# Altium schematic symbol library Amber.SCHLIB: 45 symbols
Pins are listed as number, name and electrical type; pins without a type are passive.

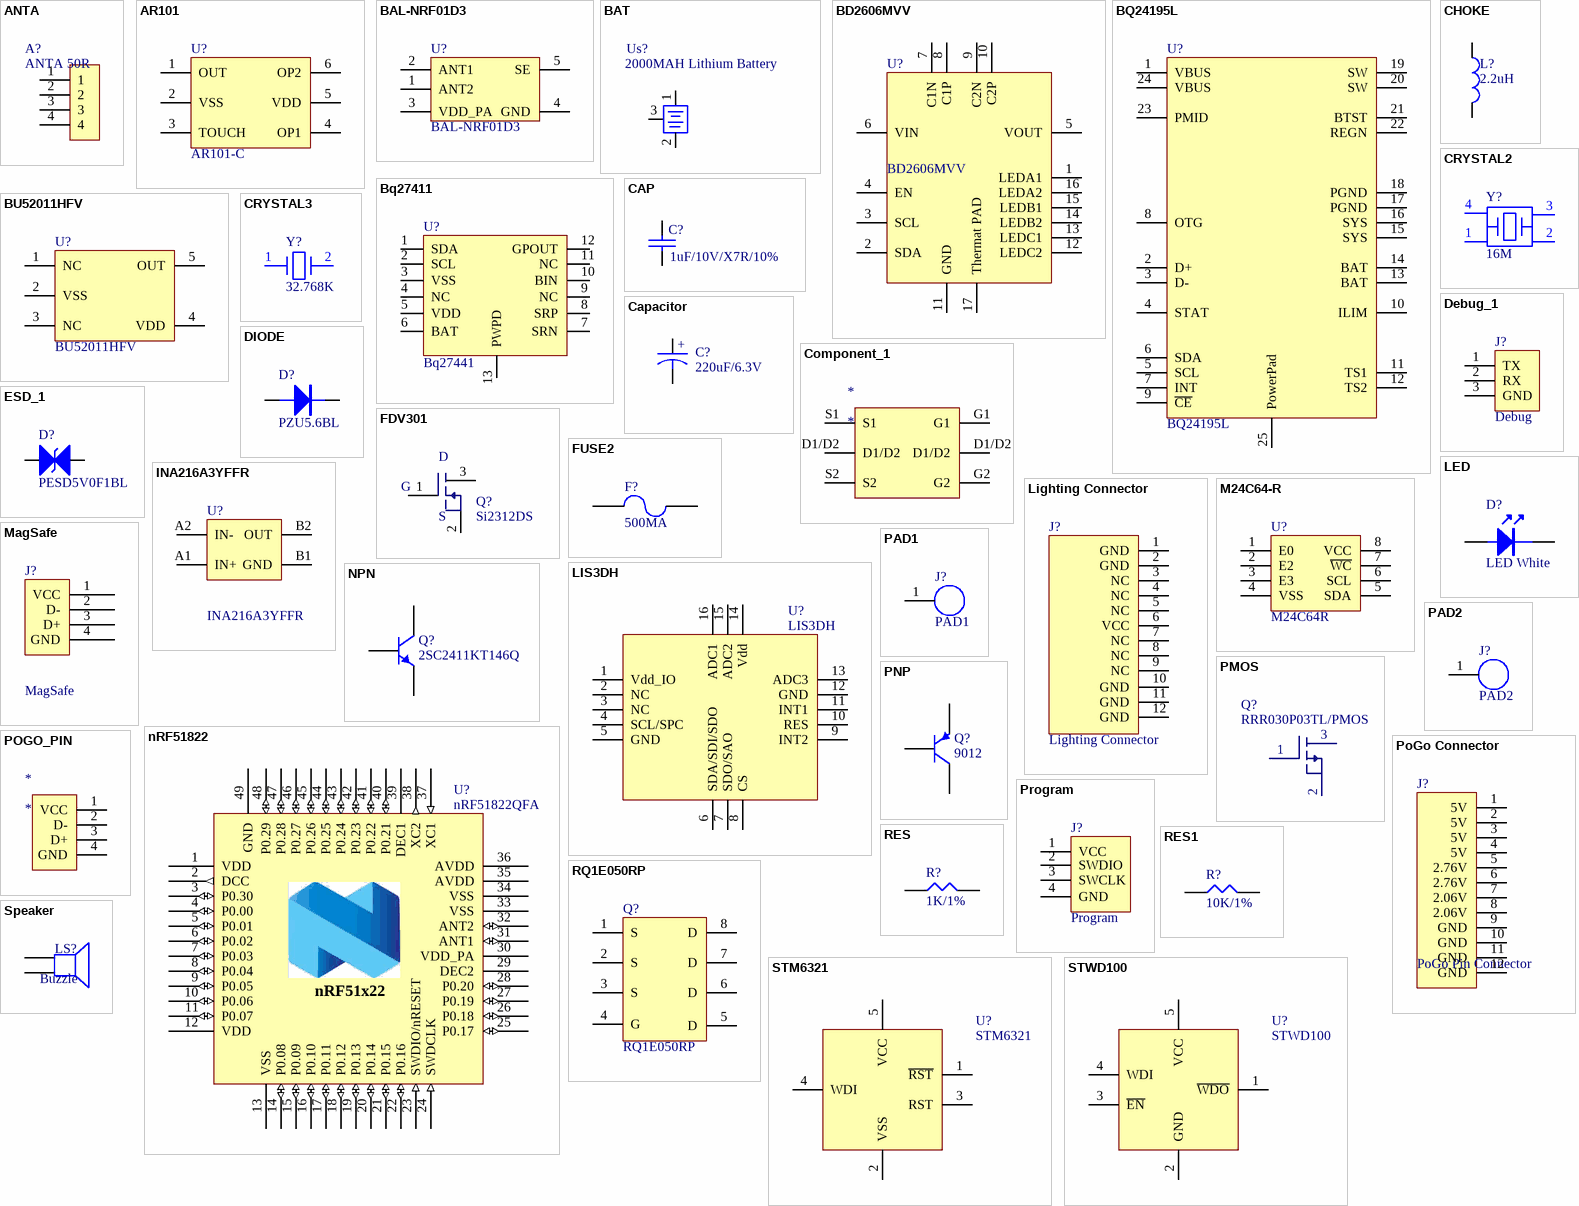
[diagram p0: symbols ANTA to STWD100]

## ANTA
designator A?, comment ANTA 50R
厂家：JOHANSON，型号：2450AT18B100E
footprint 3216-ANTA
pins: 1, 2, 3, 4

## AR101
designator U?, comment AR101-C
厂家：阿达电子，型号：AR101-C
footprint SOT23-6-L
pins: 1 OUT, 2 VSS, 3 TOUCH, 4 OP1, 5 VDD, 6 OP2

## BAL-NRF01D3
designator U?
厂家：ST，型号：BAL-NRF01D3
footprint ECOPACK (厂家:ST,型号：BAL-NRF01D3)
pins: 1 ANT2, 2 ANT1, 3 VDD_PA, 4 GND, 5 SE

## BAT
designator Us?, comment 2000MAH Lithium Battery
厂家：MOLEX，型号：5013310307
footprint Battery - duplicate
footprint 1.25-2A
footprint 2.5-3A
footprint Molex-1-3A (Molex 5013310207)
pins: 1 VCC, 2 NTC, 3 GND
2 alternate drawings of the same symbol

## BD2606MVV
designator U?
厂家：ROHM，型号：BD2606MVV
footprint SOT23-6-L
pins: 1 LEDA1, 2 SDA, 3 SCL, 4 EN, 5 VOUT, 6 VIN, 7 C1N, 8 C1P, 9 C2N, 10 C2P, 11 GND, 12 LEDC2, 13 LEDC1, 14 LEDB2, 15 LEDB1, 16 LEDA2, 17 Thermat PAD

## BQ24195L
designator U?
厂家：TI，型号：BQ24195L
footprint WDFN-10L
footprint RGT
footprint RGE (QFN, 24-Leads, Body 4.2x4.2mm (max), Pitch 0.50mm, IPC Medium Density)
pins: 1 VBUS, 2 D+, 3 D-, 4 STAT, 5 SCL, 6 SDA, 7 INT, 8 OTG, 9 ~{CE}, 10 ILIM, 11 TS1, 12 TS2, 13 BAT, 14 BAT, 15 SYS, 16 SYS, 17 PGND, 18 PGND, 19 SW, 20 SW, 21 BTST, 22 REGN, 23 PMID, 24 VBUS, 25 PowerPad
2 alternate drawings of the same symbol

## Bq27411
designator U?, comment Bq27441
厂家：TI，型号：BQ27441DRZR-G1A
footprint DRZ
pins: 1 SDA, 2 SCL, 3 VSS, 4 NC, 5 VDD, 6 BAT, 7 SRN, 8 SRP, 9 NC, 10 BIN, 11 NC, 12 GPOUT, 13 PWPD
2 alternate drawings of the same symbol

## BU52011HFV
designator U?
厂家：ROHM，型号：BU52011HFV
footprint SOT23-6-L
pins: 1 NC, 2 VSS, 3 NC, 4 VDD, 5 OUT

## CAP
designator C?, comment 1uF/10V/X7R/10%
厂家：Murata，型号：GRM155R61C105KA12D
footprint 1206
footprint 0603C
footprint 0402C
pins: 1, 2
2 alternate drawings of the same symbol

## Capacitor
designator C?, comment 220uF/6.3V
厂家：ROHM，型号：TAJC227K010RNJ
footprint 0603C
footprint 3216
footprint 6032-1
footprint 3216
footprint 6032
footprint 6032
footprint 6032
footprint 3216
pins: 1, 2
text: +

## CHOKE
designator L?, comment 2.2uH
厂家：Coilcraft,2.2uH
pins: 1, 2

## Component_1
designator *
pins: D1/D2, D1/D2, G1, G2, S1, S2

## CRYSTAL2
designator Y?, comment 16M
厂家：EPSON，型号：Q24FA20H0004400
footprint XTALSMD1 (5*3.2*)
footprint XTALSMD2-2520 (2.5*2  Epson)
pins: 1, 2, 3, 4

## CRYSTAL3
designator Y?, comment 32.768K
厂家：EPSON，型号：Q13FC1350000400
footprint XTALSMD1 (5*3.2*)
footprint XTALSMD2-3215 (3.2*1.5  32.768KHZ Epson)
pins: 1, 2

## Debug_1
designator J?, comment Debug
厂家：暂定，型号：暂定
footprint CON4*2.54
footprint CON3*2.54
footprint DEBUG
pins: 1 TX, 2 RX, 3 GND

## DIODE
designator D?, comment PZU5.6BL
厂家：NXP，型号：PZU5.6BL
footprint SOD523
footprint SOD123W
footprint SOD523
pins: 1 A, 2 K
2 alternate drawings of the same symbol

## ESD_1
designator D?, comment PESD5V0F1BL
厂家：NXP，型号：PESD5V0F1BL
footprint DO-214AC
pins: 1 Diode1, 2 dIode2

## FDV301
designator Q?, comment Si2312DS
厂家：Vishay，型号：RK7002BMT116
footprint SOT23
pins: 1 G, 2 S, 3 D

## FUSE2
designator F?, comment 500MA
厂家：万瑞和，型号：WH1206-050
footprint 1210
footprint 1210
footprint 1206
pins: 1, 2
2 alternate drawings of the same symbol

## INA216A3YFFR
designator U?
厂家：TI，型号：INA216A3YFFR
footprint SOT23-6-L
pins: A1 IN+, A2 IN-, B1 GND, B2 OUT

## LED
designator D?, comment LED White
厂家：亿光，型号：16-219A-T2D-AR2T1QY-3T-v2
footprint 0402R
footprint 0402LED
footprint 0603C
footprint 0402R
footprint 0402LED
pins: 1, 2

## Lighting Connector
designator J?
pins: 1 GND, 2 GND, 3 NC, 4 NC, 5 NC, 6 VCC, 7 NC, 8 NC, 9 NC, 10 GND, 11 GND, 12 GND

## LIS3DH
designator U?
厂家：ST，型号：LIS3DH。
footprint LGA-16
footprint LGA-16
pins: 1 Vdd_IO, 2 NC, 3 NC, 4 SCL/SPC, 5 GND, 6 SDA/SDI/SDO, 7 SDO/SAO, 8 CS, 9 INT2, 10 RES, 11 INT1, 12 GND, 13 ADC3, 14 Vdd, 15 ADC2, 16 ADC1

## M24C64-R
designator U?, comment M24C64R
厂家：ST，型号：M24C64R
footprint SO8
footprint SO8N (SOIC, 8-Leads, Body 5.0x4.0mm (max), Pitch 1.27mm, IPC Medium Density)
pins: 1 E0, 2 E2, 3 E3, 4 VSS, 5 SDA, 6 SCL, 7 ~{WC}, 8 VCC

## MagSafe
designator J?
厂家：暂定，型号：MagSafe
pins: 1 VCC, 2 D-, 3 D+, 4 GND

## NPN
designator Q?, comment 2SC2411KT146Q
厂家：ROHM，型号：2SC2411KT146Q
footprint SOT23
pins: 1 E, 2 B, 3 C

## nRF51822
designator U?, comment nRF51822QFA
厂家：Nordic，型号：nRF51822
footprint QFN48 (厂家：Nordic，型号：nRF51x22-QFAA)
pins: 1 VDD (power), 2 DCC (out), 3 P0.30 (io), 4 P0.00 (io), 5 P0.01 (io), 6 P0.02 (io), 7 P0.03 (io), 8 P0.04 (io), 9 P0.05 (io), 10 P0.06 (io), 11 P0.07 (io), 12 VDD (power), 13 VSS (power), 14 P0.08 (io), 15 P0.09 (io), 16 P0.10 (io), 17 P0.11 (io), 18 P0.12 (io), 19 P0.13 (io), 20 P0.14 (io), 21 P0.15 (io), 22 P0.16 (io), 23 SWDIO/nRESET (in), 24 SWDCLK (in), 25 P0.17 (io), 26 P0.18 (io), 27 P0.19 (io), 28 P0.20 (io), 29 DEC2 (power), 30 VDD_PA (power), 31 ANT1 (io), 32 ANT2 (io), 33 VSS (power), 34 VSS (power), 35 AVDD (power), 36 AVDD (power), 37 XC1 (in), 38 XC2 (out), 39 DEC1 (power), 40 P0.21 (io), 41 P0.22 (io), 42 P0.23 (io), 43 P0.24 (io), 44 P0.25 (io), 45 P0.26 (io), 46 P0.27 (io), 47 P0.28 (io), 48 P0.29 (io), 49 GND (power)
text: nRF51x22

## PAD1
designator J?
None
pins: 1

## PAD2
designator J?
None
pins: 1

## PMOS
designator Q?, comment RRR030P03TL/PMOS
厂家：ROHM，型号：RRR030P03TL
footprint SOT23
footprint TSMT3
pins: 1 G, 2 S, 3 D
2 alternate drawings of the same symbol

## PNP
designator Q?, comment 9012
厂家：ROHM，型号：2SA1036KT146R
footprint SOT23
pins: 1 E, 2 B, 3 C

## PoGo Connector
designator J?, comment PoGo Pin Connector
厂家：MOLEX，型号：512960894_sd
footprint FPC_CON14 - 6299 (京瓷 6299)
footprint FPC_CON8 - 6299
footprint FPC_CON8 - 6299 (京瓷 6299)
footprint FPC_CON8 - 6299 (京瓷 6299)
footprint FPC_CON8 - 6299
pins: 1 5V, 2 5V, 3 5V, 4 5V, 5 2.76V, 6 2.76V, 7 2.06V, 8 2.06V, 9 GND, 10 GND, 11 GND, 12 GND

## POGO_PIN
designator *
pins: 1 VCC, 2 D-, 3 D+, 4 GND

## Program
designator J?
厂家：暂定，型号：暂定
footprint CON4*2.54
footprint PROGRAM
pins: 1 VCC, 2 SWDIO, 3 SWCLK, 4 GND

## RES
designator R?, comment 1K/1%
厂家：Yageo，型号：RC0402FR-071KL
footprint 0603R
footprint 0402R
pins: 1, 2

## RES1
designator R?, comment 10K/1%
厂家：Yageo，型号：RC0402FR-0710KL
footprint 0402R
footprint 0603C
footprint 0603R
footprint 0402R
pins: 1, 2
2 alternate drawings of the same symbol

## RQ1E050RP
designator Q?
厂家：ROHM，型号：RQ1E050RP
footprint TSMT3
footprint TSMT8 (TSOP, 8-Leads, Body 3.1x2.5mm (max), Pitch 0.65mm, IPC Medium Density)
pins: 1 S, 2 S, 3 S, 4 G, 5 D, 6 D, 7 D, 8 D

## Speaker
designator LS?, comment Buzzle
厂家：东莞朴氏，型号：PS-SBZ5220C4003YA
footprint PIN2-2
footprint Buzzer 6736 (厂家：常州超音电子，型号：cy-6736-3016-2.7K)
pins: 1, 2

## STM6321
designator U?
厂家：ST，型号：STM6321
footprint SOT23-5 (厂家：ST，型号：STM6321硬件复位看门狗芯片)
pins: 1 ~{RST}, 2 VSS, 3 RST, 4 WDI, 5 VCC

## STWD100
designator U?
厂家：ST，型号：STWD100
footprint SOT23-5 (厂家：ST，型号：STM6321硬件复位看门狗芯片)
pins: 1 ~{WDO}, 2 GND, 3 ~{EN}, 4 WDI, 5 VCC

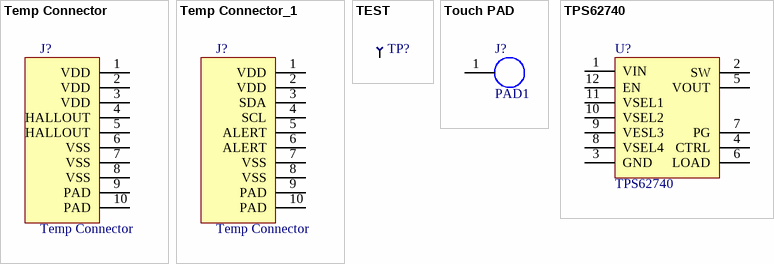
[diagram p1: symbols Temp Connector to TPS62740]

## Temp Connector
designator J?
厂家：京瓷，型号：04 6299 608 020 846+
footprint FPC_CON14 - 6299 (京瓷 6299)
footprint FPC_CON8 - 6299
footprint FPC_CON8 - 6299 (京瓷 6299)
footprint FPC_CON8 - 6299 (京瓷 6299)
footprint FPC_CON8 - 6299
pins: 1 VDD, 2 VDD, 3 VDD, 4 HALLOUT, 5 HALLOUT, 6 VSS, 7 VSS, 8 VSS, 9 PAD, 10 PAD

## Temp Connector_1
designator J?, comment Temp Connector
厂家：京瓷，型号：04 6299 608 020 846+
footprint FPC_CON14 - 6299 (京瓷 6299)
footprint FPC_CON8 - 6299
footprint FPC_CON8 - 6299 (京瓷 6299)
footprint FPC_CON8 - 6299 (京瓷 6299)
footprint FPC_CON8 - 6299
pins: 1 VDD, 2 VDD, 3 SDA, 4 SCL, 5 ALERT, 6 ALERT, 7 VSS, 8 VSS, 9 PAD, 10 PAD

## TEST
designator TP?  (value not drawn)
Test Point
footprint Test Pad
pins: 1

## Touch PAD
designator J?, comment PAD1
None
pins: 1

## TPS62740
designator U?
厂家：TI，型号：TPS62740DSST(SPQ 250)
footprint DSS (QFN, 12-Leads, Body 3.1x2.1mm (max), Pitch 0.50mm, IPC Medium Density)
pins: 1 VIN, 2 SW, 3 GND, 4 CTRL, 5 VOUT, 6 LOAD, 7 PG, 8 VSEL4, 9 VESL3, 10 VSEL2, 11 VSEL1, 12 EN